# Altium schematic symbol library GENERIC_N_MOSFET.SchLib: 1 symbol
Pins are listed as number, name and electrical type; pins without a type are passive.

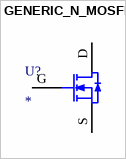
[diagram p0: symbol GENERIC_N_MOSFET]

## GENERIC_N_MOSFET
designator U?
pins: D, G, S